# Altium footprint library WE-CBF.PCBLIB: 7 footprints
Each footprint in its own frame and in the unit in brackets; x right, y up, seen from the top. Pads: shape width x height; smd on the part's side, far side on the other; paste and mask are expansions set on the pad; w line width, h text height; cw(c..) or ccw(c..) is an arc to the next point about the centre after c.
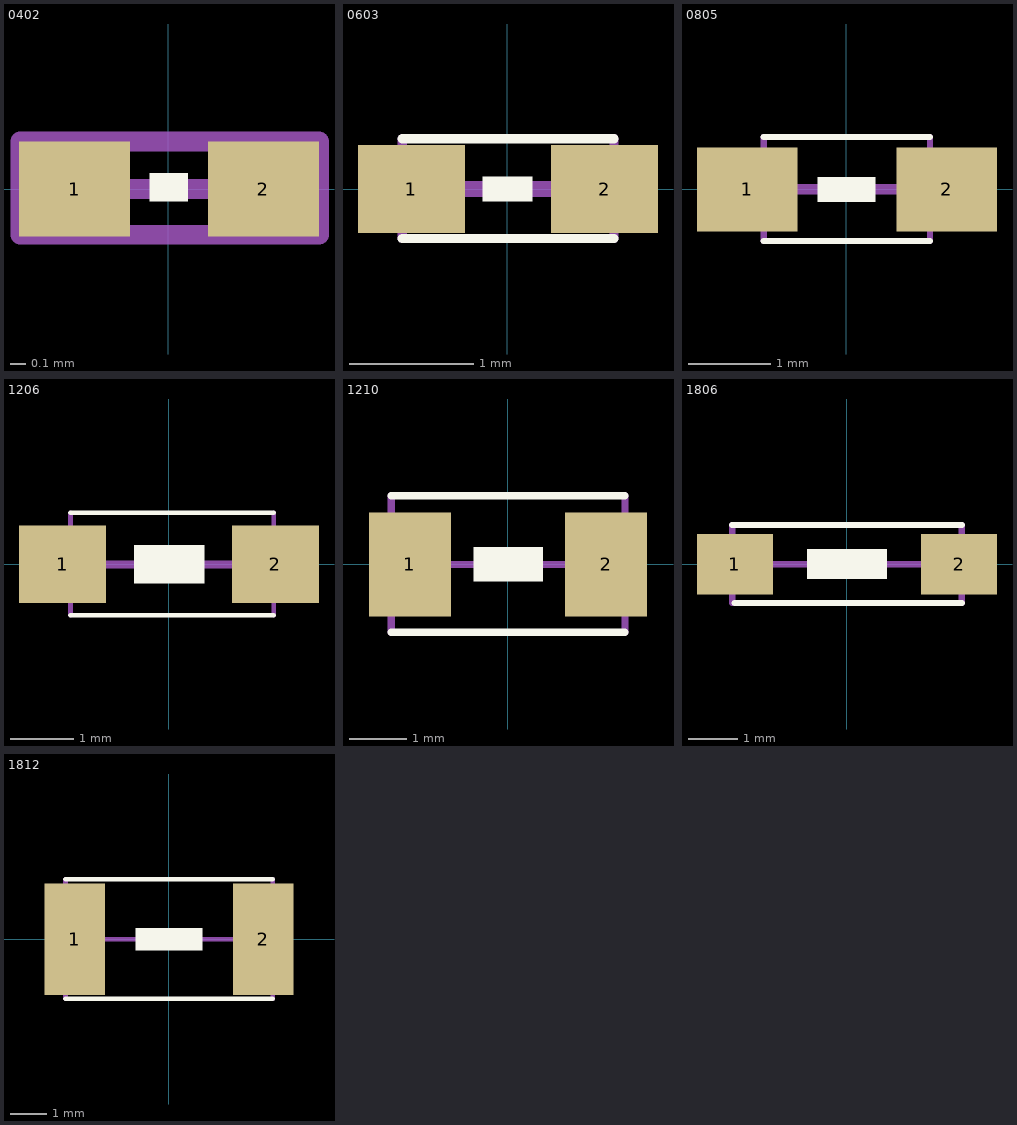
[diagram p0: the footprints below, top view; thin cyan lines are the x and y axes]

## 0402 [mil]
pads (2):
  rect 28x24 smd: 1(-23.62,0) 2(24,0)
Top Overlay:
  rectangle: -4.72,-3.15 5,4
Mechanical 16:
  lines w5: -23.62,0 24,0 ; -37.29,-11.51 38,-11.51 38,12 -37.29,12 -37.29,-11.51

## 0603 [mil]
pads (2):
  rect 34x28 smd: 1(-30.51,0) 2(31,0)
Top Overlay:
  rectangle: -7.87,-3.94 8,4
  lines w3: -33.46,-15.75 34,-15.75 ; -33.46,16 34,16
Mechanical 16:
  lines w3: -33.46,-15.75 -33.46,16 ; 34,-15.75 34,16
  lines w5: -31.5,0 32,0

## 0805 [mil]
pads (2):
  rect 48x40 smd: 1(-47.24,0) 2(48,0)
Top Overlay:
  rectangle: -13.78,-5.91 14,6
  lines w3: -39.37,-24.61 40,-24.61 ; -39.37,25 40,25
Mechanical 16:
  lines w3: -39.37,-24.61 -39.37,25 ; 40,-24.61 40,25
  lines w5: -51.18,0 48,0

## 1206 [mil]
pads (2):
  rect 54x48 smd: 1(-65.94,0) 2(66,0)
Top Overlay:
  rectangle: -21.65,-11.81 22,12
  lines w3: -61.02,-31.5 65,-31.5 ; -61.02,32 65,32
Mechanical 16:
  lines w3: -61.02,-31.5 -61.02,32 ; 65,-31.5 65,32
  lines w5: -64.96,0 69,0

## 1210 [mil]
pads (2):
  rect 56x71 smd: 1(-66.93,0) 2(67,0)
Top Overlay:
  rectangle: -23.62,-11.81 24,12
  lines w5: -79.63,-46.37 80,-46.37 ; -79.63,47 80,47
Mechanical 16:
  lines w5: -79.63,-46.37 -79.63,47 ; -66.93,0 71,0 ; 80,-46.37 80,47

## 1806 [mil]
pads (2):
  rect 60x48 smd: 1(-88.58,0) 2(89,0)
Top Overlay:
  rectangle: -31.5,-11.81 32,12
  lines w5: -90.57,31 91,31 ; -88.6,-30.63 91,-30.63
Mechanical 16:
  lines w5: -90.57,-30.63 -90.57,31 ; -88.58,0 87,0 ; 91,-30.63 91,31

## 1812 [mil]
pads (2):
  rect 65x119 smd: 1(-100.39,0) 2(101,0)
Top Overlay:
  rectangle: -35.43,-11.81 36,12
  lines w5: -110.25,-63.44 111,-63.44 ; -110.25,64 111,64
Mechanical 16:
  lines w5: -110.25,-63.44 -110.25,64 ; -90.55,0 95,0 ; 111,-63.44 111,64